# Altium footprint library DRV8701_DualMotorDriver V1.1.PcbLib: 84 footprints (part 3 of 6)
Each footprint in its own frame and in the unit in brackets; x right, y up, seen from the top. Pads: shape width x height; smd on the part's side, far side on the other; paste and mask are expansions set on the pad; w line width, h text height; cw(c..) or ccw(c..) is an arc to the next point about the centre after c.
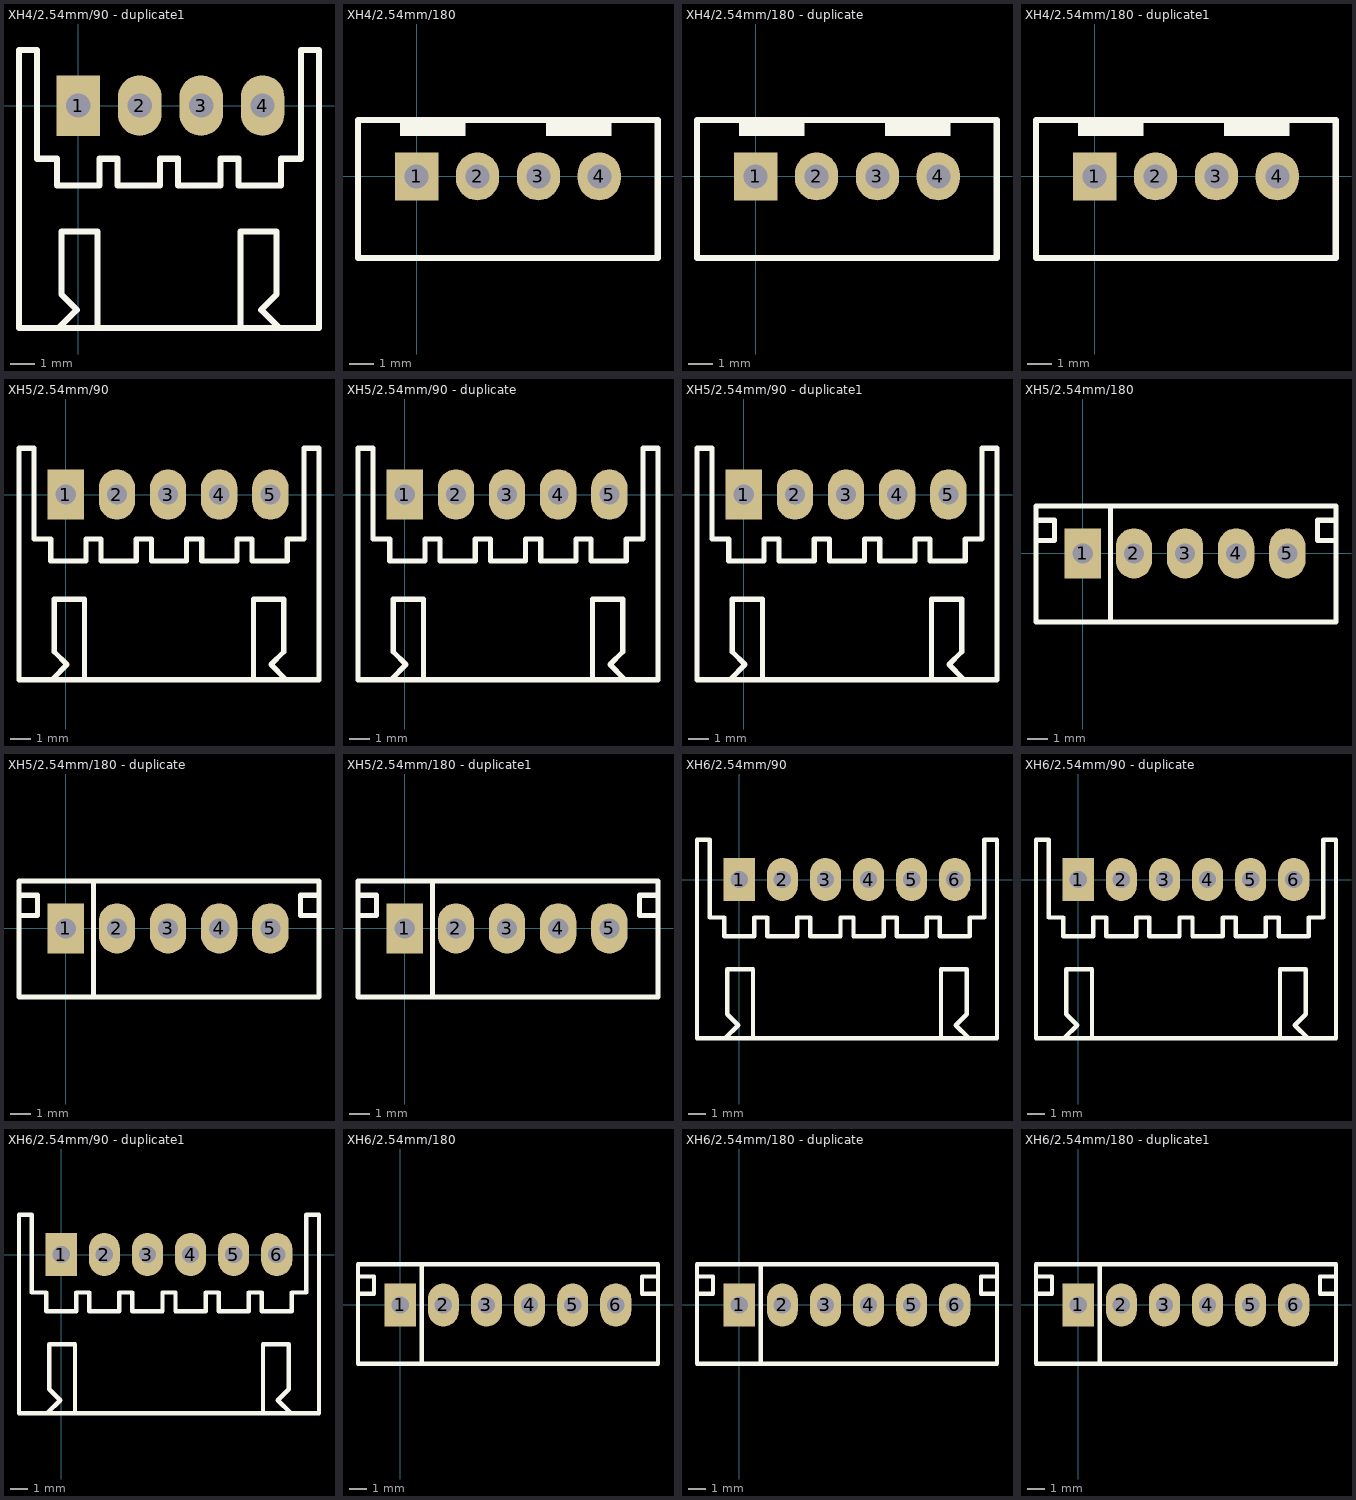
[diagram p2: the footprints below, top view; thin cyan lines are the x and y axes]

## XH4/2.54mm/90 - duplicate1 [mm]
pads (4):
  rect 1.8x2.5 hole 1: 1(0,0)
  oval 1.8x2.5 hole 1: 2(2.54,0) 3(5.08,0) 4(7.62,0)
Top Overlay:
  lines w0.254: -0.79,-9.172 -0.064,-8.445 -0.7,-7.809 -0.7,-5.2 0.8,-5.2 0.8,-9.2 ; 6.7,-9.2 6.7,-5.2 8.2,-5.2 8.2,-7.809 7.564,-8.445 8.29,-9.172 ; -2.45,-9.2 -2.45,2.3 -1.7,2.3 -1.7,-2.2 -0.875,-2.2 -0.875,-3.3 0.875,-3.3 0.875,-2.2 1.625,-2.2 1.625,-3.3 3.375,-3.3 3.375,-2.2 4.125,-2.2 4.125,-3.3 5.875,-3.3 5.875,-2.2 6.625,-2.2 6.625,-3.3 8.375,-3.3 8.375,-2.2 9.2,-2.2 9.2,2.3 9.95,2.3 9.95,-9.2 -2.45,-9.2
3D body "JST-S4B-XH-A.STEP": height 6.1, standoff -3.4, extent -2.45,-9.2 9.95,2.3

## XH4/2.54mm/180 [mm]
pads (4):
  rect 1.8x2 hole 1: 1(0,0)
  oval 1.8x2 hole 1: 2(2.54,0) 3(5.08,0) 4(7.62,0)
Top Overlay:
  rectangle: 5.392,1.692 8.128,2.342
  rectangle: -0.704,1.692 2.032,2.342
  lines w0.24: -2.45,0 -2.45,2.35
  lines w0.254: -2.45,0 -2.45,-3.4 ; 10.058,-3.4 10.058,2.325 ; -2.45,-3.4 10.07,-3.4 ; -2.45,-3.4 -2.45,2.35 ; -2.45,2.35 -2.45,2.35 ; -2.45,2.35 10.07,2.35 ; 10.07,-3.4 10.07,2.35 ; 10.07,-3.4 10.07,0 10.07,2.35
3D body "User Library-B4B-XH-A.STEP": height 7, standoff -3.4, extent -2.39,-3.302 10.01,2.448

## XH4/2.54mm/180 - duplicate [mm]
pads (4):
  rect 1.8x2 hole 1: 1(0,0)
  oval 1.8x2 hole 1: 2(2.54,0) 3(5.08,0) 4(7.62,0)
Top Overlay:
  rectangle: 5.392,1.692 8.128,2.342
  rectangle: -0.704,1.692 2.032,2.342
  lines w0.24: -2.45,0 -2.45,2.35
  lines w0.254: -2.45,0 -2.45,-3.4 ; 10.058,-3.4 10.058,2.325 ; -2.45,-3.4 10.07,-3.4 ; -2.45,-3.4 -2.45,2.35 ; -2.45,2.35 -2.45,2.35 ; -2.45,2.35 10.07,2.35 ; 10.07,-3.4 10.07,2.35 ; 10.07,-3.4 10.07,0 10.07,2.35
3D body "User Library-B4B-XH-A.STEP": height 7, standoff -3.4, extent -2.39,-3.302 10.01,2.448

## XH4/2.54mm/180 - duplicate1 [mm]
pads (4):
  rect 1.8x2 hole 1: 1(0,0)
  oval 1.8x2 hole 1: 2(2.54,0) 3(5.08,0) 4(7.62,0)
Top Overlay:
  rectangle: -0.704,1.692 2.032,2.342
  rectangle: 5.392,1.692 8.128,2.342
  lines w0.24: -2.45,0 -2.45,2.35
  lines w0.254: -2.45,0 -2.45,-3.4 ; 10.058,-3.4 10.058,2.325 ; -2.45,-3.4 -2.45,2.35 ; -2.45,-3.4 10.07,-3.4 ; -2.45,2.35 10.07,2.35 ; -2.45,2.35 -2.45,2.35 ; 10.07,-3.4 10.07,0 10.07,2.35 ; 10.07,-3.4 10.07,2.35
3D body "User Library-B4B-XH-A.STEP": height 7, standoff -3.4, extent -2.39,-3.302 10.01,2.448

## XH5/2.54mm/90 [mm]
pads (5):
  rect 1.8x2.5 hole 1: 1(0,0)
  oval 1.8x2.5 hole 1: 2(2.54,0) 3(5.08,0) 4(7.62,0) 5(10.16,0)
Top Overlay:
  lines w0.254: -0.663,-9.172 0.064,-8.445 -0.573,-7.809 -0.573,-5.2 0.927,-5.2 0.927,-9.2 ; 9.327,-9.2 9.327,-5.2 10.827,-5.2 10.827,-7.809 10.191,-8.445 10.917,-9.172 ; -2.323,-9.2 -2.323,2.3 -1.573,2.3 -1.573,-2.2 -0.748,-2.2 -0.748,-3.3 1.002,-3.3 1.002,-2.2 1.752,-2.2 1.752,-3.3 3.502,-3.3 3.502,-2.2 4.252,-2.2 4.252,-3.3 6.002,-3.3 6.002,-2.2 6.752,-2.2 6.752,-3.3 8.502,-3.3 8.502,-2.2 9.252,-2.2 9.252,-3.3 11.002,-3.3 11.002,-2.2 11.827,-2.2 11.827,2.3 12.577,2.3 12.577,-9.2 -2.323,-9.2
3D body "JST-S5B-XH-A.STEP": height 6.1, standoff -3.4, extent -2.323,-9.2 12.577,2.3

## XH5/2.54mm/90 - duplicate [mm]
pads (5):
  rect 1.8x2.5 hole 1: 1(0,0)
  oval 1.8x2.5 hole 1: 2(2.54,0) 3(5.08,0) 4(7.62,0) 5(10.16,0)
Top Overlay:
  lines w0.254: -0.663,-9.172 0.064,-8.445 -0.573,-7.809 -0.573,-5.2 0.927,-5.2 0.927,-9.2 ; 9.327,-9.2 9.327,-5.2 10.827,-5.2 10.827,-7.809 10.191,-8.445 10.917,-9.172 ; -2.323,-9.2 -2.323,2.3 -1.573,2.3 -1.573,-2.2 -0.748,-2.2 -0.748,-3.3 1.002,-3.3 1.002,-2.2 1.752,-2.2 1.752,-3.3 3.502,-3.3 3.502,-2.2 4.252,-2.2 4.252,-3.3 6.002,-3.3 6.002,-2.2 6.752,-2.2 6.752,-3.3 8.502,-3.3 8.502,-2.2 9.252,-2.2 9.252,-3.3 11.002,-3.3 11.002,-2.2 11.827,-2.2 11.827,2.3 12.577,2.3 12.577,-9.2 -2.323,-9.2
3D body "JST-S5B-XH-A.STEP": height 6.1, standoff -3.4, extent -2.323,-9.2 12.577,2.3

## XH5/2.54mm/90 - duplicate1 [mm]
pads (5):
  rect 1.8x2.5 hole 1: 1(0,0)
  oval 1.8x2.5 hole 1: 2(2.54,0) 3(5.08,0) 4(7.62,0) 5(10.16,0)
Top Overlay:
  lines w0.254: -0.663,-9.172 0.064,-8.445 -0.573,-7.809 -0.573,-5.2 0.927,-5.2 0.927,-9.2 ; 9.327,-9.2 9.327,-5.2 10.827,-5.2 10.827,-7.809 10.191,-8.445 10.917,-9.172 ; -2.323,-9.2 12.577,-9.2 12.577,2.3 11.827,2.3 11.827,-2.2 11.002,-2.2 11.002,-3.3 9.252,-3.3 9.252,-2.2 8.502,-2.2 8.502,-3.3 6.752,-3.3 6.752,-2.2 6.002,-2.2 6.002,-3.3 4.252,-3.3 4.252,-2.2 3.502,-2.2 3.502,-3.3 1.752,-3.3 1.752,-2.2 1.002,-2.2 1.002,-3.3 -0.748,-3.3 -0.748,-2.2 -1.573,-2.2 -1.573,2.3 -2.323,2.3 -2.323,-9.2
3D body "JST-S5B-XH-A.STEP": height 6.1, standoff -3.4, extent -2.323,-9.2 12.577,2.3

## XH5/2.54mm/180 [mm]
pads (5):
  rect 1.8x2.5 hole 1: 1(0,0)
  oval 1.8x2.5 hole 1: 2(2.54,0) 3(5.08,0) 4(7.62,0) 5(10.16,0)
Top Overlay:
  lines w0.254: -2.323,0.65 -1.397,0.65 -1.397,1.65 -2.323,1.65 ; 1.377,-3.4 1.377,2.35 ; 12.577,0.65 11.651,0.65 11.651,1.65 12.577,1.65 ; -2.323,-3.4 12.577,-3.4 12.577,2.35 -2.323,2.35 -2.323,-3.4
3D body "JST-B5B-XH-A.STEP": height 7, standoff -3.4, extent -2.323,-3.4 12.577,2.35

## XH5/2.54mm/180 - duplicate [mm]
pads (5):
  rect 1.8x2.5 hole 1: 1(0,0)
  oval 1.8x2.5 hole 1: 2(2.54,0) 3(5.08,0) 4(7.62,0) 5(10.16,0)
Top Overlay:
  lines w0.254: -2.323,0.65 -1.397,0.65 -1.397,1.65 -2.323,1.65 ; 1.377,-3.4 1.377,2.35 ; 12.577,0.65 11.651,0.65 11.651,1.65 12.577,1.65 ; -2.323,-3.4 12.577,-3.4 12.577,2.35 -2.323,2.35 -2.323,-3.4
3D body "JST-B5B-XH-A.STEP": height 7, standoff -3.4, extent -2.323,-3.4 12.577,2.35

## XH5/2.54mm/180 - duplicate1 [mm]
pads (5):
  rect 1.8x2.5 hole 1: 1(0,0)
  oval 1.8x2.5 hole 1: 2(2.54,0) 3(5.08,0) 4(7.62,0) 5(10.16,0)
Top Overlay:
  lines w0.254: -2.323,0.65 -1.397,0.65 -1.397,1.65 -2.323,1.65 ; 1.377,-3.4 1.377,2.35 ; 12.577,0.65 11.651,0.65 11.651,1.65 12.577,1.65 ; -2.323,-3.4 -2.323,2.35 12.577,2.35 12.577,-3.4 -2.323,-3.4
3D body "JST-B5B-XH-A.STEP": height 7, standoff -3.4, extent -2.323,-3.4 12.577,2.35

## XH6/2.54mm/90 [mm]
pads (6):
  rect 1.8x2.5 hole 1: 1(0,0)
  oval 1.8x2.5 hole 1: 2(2.5,0) 3(5,0) 4(7.5,0) 5(10,0) 6(12.5,0)
Top Overlay:
  lines w0.254: -0.79,-9.172 -0.064,-8.445 -0.7,-7.809 -0.7,-5.2 0.8,-5.2 0.8,-9.2 ; 11.7,-9.2 11.7,-5.2 13.2,-5.2 13.2,-7.809 12.564,-8.445 13.29,-9.172 ; -2.45,-9.2 -2.45,2.3 -1.7,2.3 -1.7,-2.2 -0.875,-2.2 -0.875,-3.3 0.875,-3.3 0.875,-2.2 1.625,-2.2 1.625,-3.3 3.375,-3.3 3.375,-2.2 4.125,-2.2 4.125,-3.3 5.875,-3.3 5.875,-2.2 6.625,-2.2 6.625,-3.3 8.375,-3.3 8.375,-2.2 9.125,-2.2 9.125,-3.3 10.875,-3.3 10.875,-2.2 11.625,-2.2 11.625,-3.3 13.375,-3.3 13.375,-2.2 14.2,-2.2 14.2,2.3 14.95,2.3 14.95,-9.2 -2.45,-9.2
3D body "JST-S6B-XH-A.STEP": height 6.1, standoff -3.4, extent -2.45,-9.2 14.95,2.3

## XH6/2.54mm/90 - duplicate [mm]
pads (6):
  rect 1.8x2.5 hole 1: 1(0,0)
  oval 1.8x2.5 hole 1: 2(2.5,0) 3(5,0) 4(7.5,0) 5(10,0) 6(12.5,0)
Top Overlay:
  lines w0.254: -0.79,-9.172 -0.064,-8.445 -0.7,-7.809 -0.7,-5.2 0.8,-5.2 0.8,-9.2 ; 11.7,-9.2 11.7,-5.2 13.2,-5.2 13.2,-7.809 12.564,-8.445 13.29,-9.172 ; -2.45,-9.2 -2.45,2.3 -1.7,2.3 -1.7,-2.2 -0.875,-2.2 -0.875,-3.3 0.875,-3.3 0.875,-2.2 1.625,-2.2 1.625,-3.3 3.375,-3.3 3.375,-2.2 4.125,-2.2 4.125,-3.3 5.875,-3.3 5.875,-2.2 6.625,-2.2 6.625,-3.3 8.375,-3.3 8.375,-2.2 9.125,-2.2 9.125,-3.3 10.875,-3.3 10.875,-2.2 11.625,-2.2 11.625,-3.3 13.375,-3.3 13.375,-2.2 14.2,-2.2 14.2,2.3 14.95,2.3 14.95,-9.2 -2.45,-9.2
3D body "JST-S6B-XH-A.STEP": height 6.1, standoff -3.4, extent -2.45,-9.2 14.95,2.3

## XH6/2.54mm/90 - duplicate1 [mm]
pads (6):
  rect 1.8x2.5 hole 1: 1(0,0)
  oval 1.8x2.5 hole 1: 2(2.5,0) 3(5,0) 4(7.5,0) 5(10,0) 6(12.5,0)
Top Overlay:
  lines w0.254: -0.79,-9.172 -0.064,-8.445 -0.7,-7.809 -0.7,-5.2 0.8,-5.2 0.8,-9.2 ; 11.7,-9.2 11.7,-5.2 13.2,-5.2 13.2,-7.809 12.564,-8.445 13.29,-9.172 ; -2.45,-9.2 14.95,-9.2 14.95,2.3 14.2,2.3 14.2,-2.2 13.375,-2.2 13.375,-3.3 11.625,-3.3 11.625,-2.2 10.875,-2.2 10.875,-3.3 9.125,-3.3 9.125,-2.2 8.375,-2.2 8.375,-3.3 6.625,-3.3 6.625,-2.2 5.875,-2.2 5.875,-3.3 4.125,-3.3 4.125,-2.2 3.375,-2.2 3.375,-3.3 1.625,-3.3 1.625,-2.2 0.875,-2.2 0.875,-3.3 -0.875,-3.3 -0.875,-2.2 -1.7,-2.2 -1.7,2.3 -2.45,2.3 -2.45,-9.2
3D body "JST-S6B-XH-A.STEP": height 6.1, standoff -3.4, extent -2.45,-9.2 14.95,2.3

## XH6/2.54mm/180 [mm]
pads (6):
  rect 1.8x2.5 hole 1: 1(0,0)
  oval 1.8x2.5 hole 1: 2(2.5,0) 3(5,0) 4(7.5,0) 5(10,0) 6(12.5,0)
Top Overlay:
  lines w0.254: -2.45,0.65 -1.524,0.65 -1.524,1.65 -2.45,1.65 ; 1.25,-3.4 1.25,2.35 ; 14.95,0.65 14.024,0.65 14.024,1.65 14.95,1.65 ; -2.45,-3.4 14.95,-3.4 14.95,2.35 -2.45,2.35 -2.45,-3.4
3D body "JST-B6B-XH-A.STEP": height 7, standoff -3.4, extent -2.45,-3.4 14.95,2.35

## XH6/2.54mm/180 - duplicate [mm]
pads (6):
  rect 1.8x2.5 hole 1: 1(0,0)
  oval 1.8x2.5 hole 1: 2(2.5,0) 3(5,0) 4(7.5,0) 5(10,0) 6(12.5,0)
Top Overlay:
  lines w0.254: -2.45,0.65 -1.524,0.65 -1.524,1.65 -2.45,1.65 ; 1.25,-3.4 1.25,2.35 ; 14.95,0.65 14.024,0.65 14.024,1.65 14.95,1.65 ; -2.45,-3.4 -2.45,2.35 14.95,2.35 14.95,-3.4 -2.45,-3.4
3D body "JST-B6B-XH-A.STEP": height 7, standoff -3.4, extent -2.45,-3.4 14.95,2.35

## XH6/2.54mm/180 - duplicate1 [mm]
pads (6):
  rect 1.8x2.5 hole 1: 1(0,0)
  oval 1.8x2.5 hole 1: 2(2.5,0) 3(5,0) 4(7.5,0) 5(10,0) 6(12.5,0)
Top Overlay:
  lines w0.254: -2.45,0.65 -1.524,0.65 -1.524,1.65 -2.45,1.65 ; 1.25,-3.4 1.25,2.35 ; 14.95,0.65 14.024,0.65 14.024,1.65 14.95,1.65 ; -2.45,-3.4 14.95,-3.4 14.95,2.35 -2.45,2.35 -2.45,-3.4
3D body "JST-B6B-XH-A.STEP": height 7, standoff -3.4, extent -2.45,-3.4 14.95,2.35